# Altium schematic symbol library TVS Diode.SchLib: 1 symbol
Pins are listed as number, name and electrical type; pins without a type are passive.

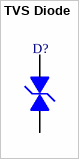
[diagram p0: symbol TVS Diode]

## TVS Diode
designator D?  (value not drawn)
Manufacturer: Bourns; Manufacturer ID: CDSOD323-T03SC
footprint TVS Diode
pins: 1, 2